# EAGLE library part MAX2750AUA+ (library MAX2750AUA_)
Controlled Oscillator 2.4GHz to 2.5GHz VCXO 8-Pin uMAX
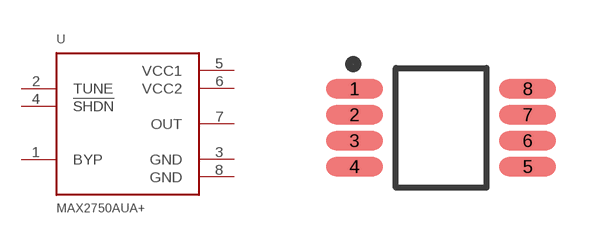
[diagram p0: symbol with the pads of SOP65P490X110-8N; footprint SOP65P490X110-8N]

Designator prefix U

## MAX2750AUA+ (Description: 2.4GHz Monolithic Voltage-Controlled Oscillator for Automotive; Digi-Key_Part_Number: MAX2750AUA+-ND; Digi-Key_Purchase_URL: https://www.digikey.com/product-detail/en/maxim-integrated/MAX2750AUA-/MAX2750AUA--ND/1937439?utm_source=snapeda&utm_medium=aggregator&utm_campaign=symbol; MF: Maxim Integrated; MP: MAX2750AUA+; Package: &amp;MICRO;MAX-8 Maxim)  [SOP65P490X110-8N]
1  BYP  pas
2  TUNE  in
3  GND  pwr
4  !SHDN  in
5  VCC1  pwr
6  VCC2  pwr
7  OUT  out
8  GND  pwr

## Footprint SOP65P490X110-8N (pad centres in mm)
smd 1.42 x 0.47: 1 -2.165,0.975; 2 -2.165,0.325; 3 -2.165,-0.325; 4 -2.165,-0.975; 5 2.165,-0.975; 6 2.165,-0.325; 7 2.165,0.325; 8 2.165,0.975